# Altium schematic symbol library SCH - POWER - SWITCHMODE - TI TPS62110-Q1RSA.SchLib: 1 symbol
Pins are listed as number, name and electrical type; pins without a type are passive.

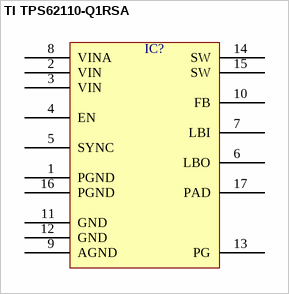
[diagram p0: symbol TI TPS62110-Q1RSA]

## TI TPS62110-Q1RSA
designator IC?  (value not drawn)
pins: 1 PGND, 2 VIN, 3 VIN, 4 EN, 5 SYNC, 6 LBO, 7 LBI, 8 VINA, 9 AGND, 10 FB, 11 GND, 12 GND, 13 PG, 14 SW, 15 SW, 16 PGND, 17 PAD